# Altium footprint library STM32G030J6M6.PcbLib: 1 footprints
Each footprint in its own frame and in the unit in brackets; x right, y up, seen from the top. Pads: shape width x height; smd on the part's side, far side on the other; paste and mask are expansions set on the pad; w line width, h text height; cw(c..) or ccw(c..) is an arc to the next point about the centre after c.
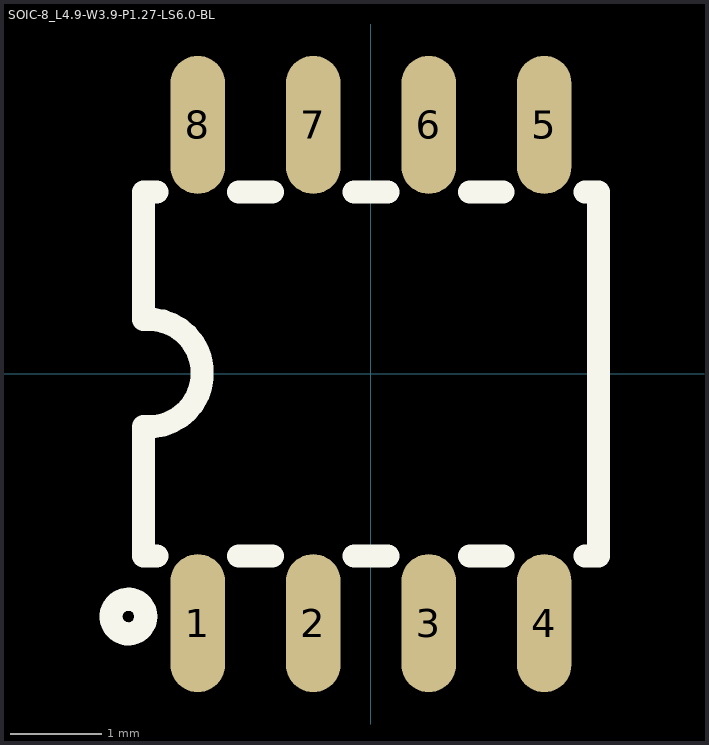
[diagram p0: the footprint, top view; thin cyan lines are the x and y axes]

## SOIC-8_L4.9-W3.9-P1.27-LS6.0-BL [mm]
pads (8):
  oval 0.6x1.518 smd: 1(-1.905,-2.74) 2(-0.635,-2.74) 3(0.635,-2.74) 4(1.905,-2.74) 5(1.905,2.74) 6(0.635,2.74) 7(-0.635,2.74) 8(-1.905,2.74)
Top Overlay:
  circle w0.254: c-2.667,-2.667 r0.191
  lines w0.254: -2.5,-0.58 -2.5,-2 -2.356,-2 ; -2.5,0.6 -2.5,2 -2.356,2 ; -2.49,-0.58 ccw(c-2.445,0.01) -2.49,0.6 ; -1.454,-2 -1.086,-2 ; -1.454,2 -1.086,2 ; -0.184,-2 0.184,-2 ; -0.184,2 0.184,2 ; 1.086,-2 1.454,-2 ; 1.086,2 1.454,2 ; 2.356,-2 2.5,-2 2.5,2 2.356,2